# EAGLE library part POWERCASTEL (library castels)
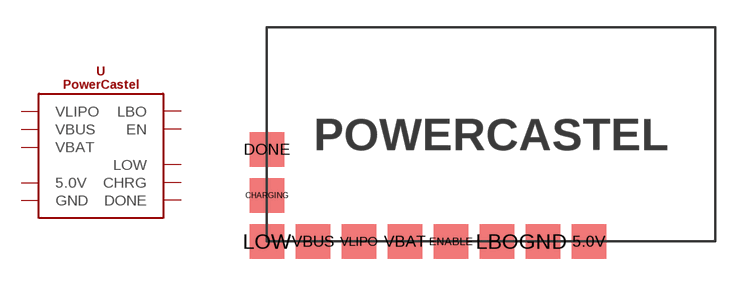
[diagram p3: symbol with the pads of POWERCASTEL; footprint POWERCASTEL]

Designator prefix -

## POWERCASTEL  [POWERCASTEL]
5.0V  5.0V
CHARGING  CHRG
DONE  DONE
ENABLE  EN
GND  GND
LBO  LBO
LOW  LOW
VBAT  VBAT
VBUS  VBUS
VLIPO  VLIPO

## Footprint POWERCASTEL (pad centres in mm)
smd 1.905 x 1.905: 5.0V 5.397,-5.918; CHARGING -12.383,-3.378; DONE -12.383,-0.838; ENABLE -2.223,-5.918; GND 2.857,-5.918; LBO 0.318,-5.918; LOW -12.383,-5.918; VBAT -4.763,-5.918; VBUS -9.842,-5.918; VLIPO -7.303,-5.918